# Altium footprint library CONN FiberOptic 51-310.PcbLib: 1 footprints
Each footprint in its own frame and in the unit in brackets; x right, y up, seen from the top. Pads: shape width x height; smd on the part's side, far side on the other; paste and mask are expansions set on the pad; w line width, h text height; cw(c..) or ccw(c..) is an arc to the next point about the centre after c.
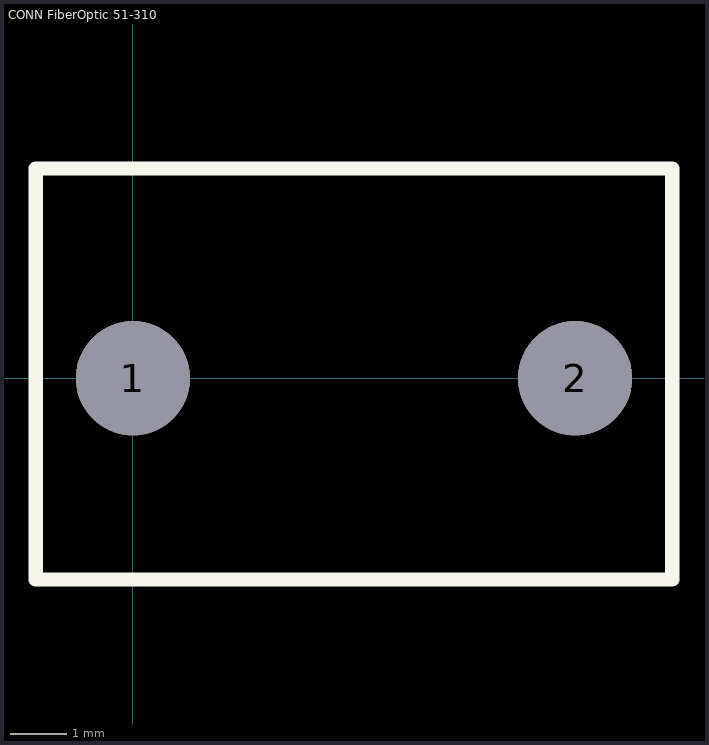
[diagram p0: the footprint, top view; thin cyan lines are the x and y axes]

## CONN FiberOptic 51-310 [mil] "Fiber Optic Connector i-fiberoptics 51-310"
pads (2):
  round 80 hole 80 unplated: 1(0,0) 2(310,0)
Top Overlay:
  lines w10: -68,-141 378,-141 378,147 -68,147 -68,-141
3D body: height 342.52, standoff -133.86, extent -61.07,-134.8 372,140.8